# Altium footprint library esp121.PcbLib: 1 footprints
Each footprint in its own frame and in the unit in brackets; x right, y up, seen from the top. Pads: shape width x height; smd on the part's side, far side on the other; paste and mask are expansions set on the pad; w line width, h text height; cw(c..) or ccw(c..) is an arc to the next point about the centre after c.
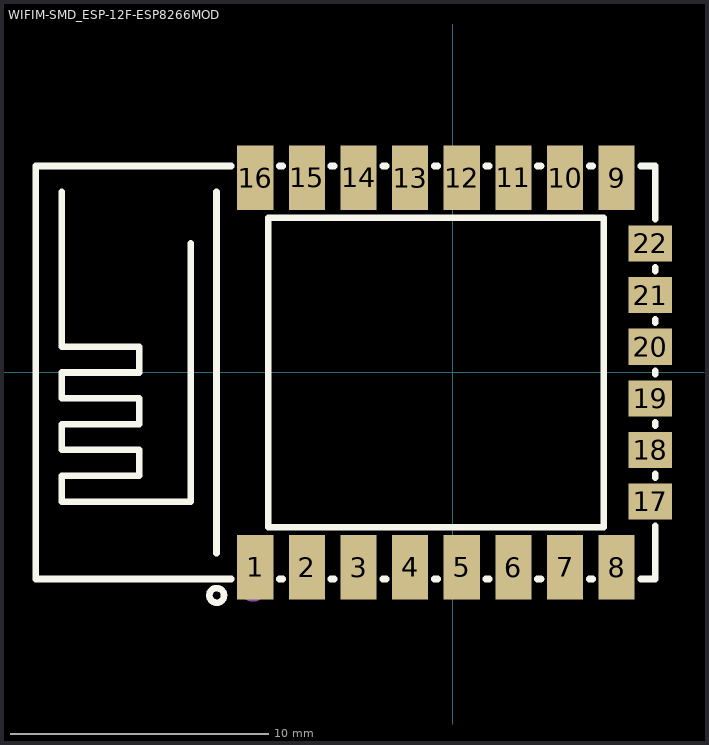
[diagram p0: the footprint, top view; thin cyan lines are the x and y axes]

## WIFIM-SMD_ESP-12F-ESP8266MOD [mm]
pads (22):
  rect 1.4x2.5 smd: 1(-7.651,-7.551) 2(-5.651,-7.551) 3(-3.651,-7.551) 4(-1.651,-7.551) 5(0.349,-7.551) 6(2.349,-7.551) 7(4.349,-7.551) 8(6.349,-7.551) 9(6.349,7.549) 10(4.349,7.55) 11(2.349,7.551) 12(0.349,7.551) 13(-1.651,7.55) 14(-3.651,7.551) 15(-5.651,7.55) 16(-7.651,7.551)
  rect 1.7x1.4 smd: 17(7.65,-5) 18(7.649,-3.002) 19(7.649,-1.003) 20(7.649,0.998) 21(7.649,2.997) 22(7.65,4.997)
Top Overlay:
  circle w0.254: c-9.144,-8.636 r0.284
  lines w0.254: -15.151,6.998 -15.151,0.998 -12.151,0.998 -12.151,-0.002 -15.151,-0.002 -15.151,-1.002 -12.151,-1.002 -12.151,-2.002 -15.151,-2.002 -15.151,-3.002 -12.151,-3.002 -12.151,-4.002 -15.151,-4.002 -15.151,-5.002 -10.151,-5.002 -10.151,4.998 ; -9.151,-7.002 -9.151,6.998 ; -8.582,-8.001 -16.151,-8.001 -16.151,7.998 -8.582,7.998 ; -6.719,-8.001 -6.582,-8.001 ; -6.719,7.998 -6.582,7.998 ; -4.719,-8.001 -4.582,-8.001 ; -4.719,7.998 -4.582,7.998 ; -2.719,-8.001 -2.582,-8.001 ; -2.719,7.998 -2.582,7.998 ; -0.719,-8.001 -0.582,-8.001 ; -0.719,7.998 -0.582,7.998 ; 1.281,-8.001 1.418,-8.001 ; 1.281,7.998 1.418,7.998 ; 3.281,-8.001 3.418,-8.001 ; 3.281,7.998 3.418,7.998 ; 5.281,-8.001 5.418,-8.001 ; 5.281,7.998 5.418,7.998 ; 7.281,-8.001 7.847,-8.001 7.847,-5.931 ; 7.281,7.998 7.847,7.998 7.847,5.928 ; 7.847,-4.069 7.847,-3.933 ; 7.847,-2.071 7.847,-1.934 ; 7.847,-0.072 7.847,0.066 ; 7.847,1.929 7.847,2.066 ; 7.847,3.928 7.847,4.066 ; -7.151,-6.002 -7.151,5.998 5.849,5.998 5.849,-6.002 -7.151,-6.002
Mechanical 15:
  circle w0.5: c-7.747,-8.382 r0.25